# Altium footprint library SODFL160X80X70L60X30N.PcbLib: 1 footprints
Each footprint in its own frame and in the unit in brackets; x right, y up, seen from the top. Pads: shape width x height; smd on the part's side, far side on the other; paste and mask are expansions set on the pad; w line width, h text height; cw(c..) or ccw(c..) is an arc to the next point about the centre after c.
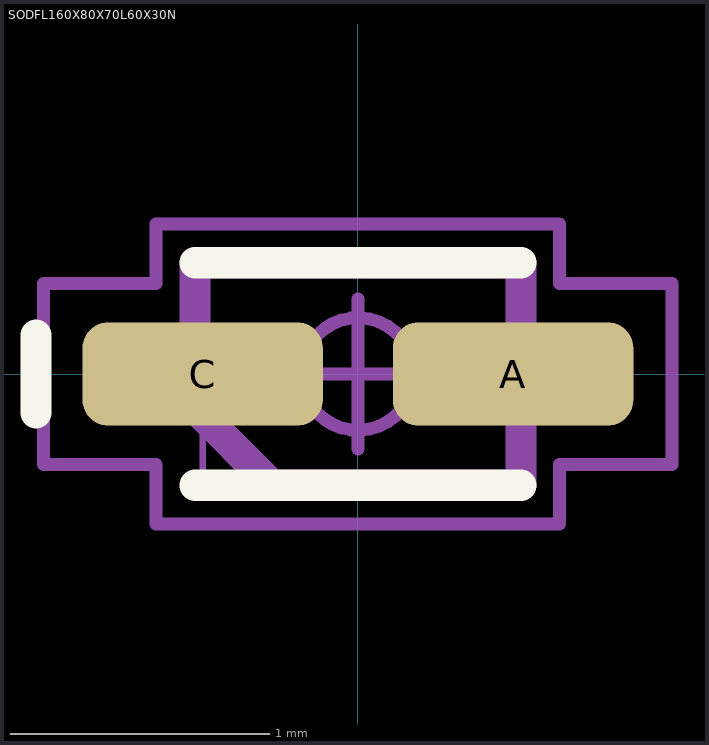
[diagram p0: the footprint, top view; thin cyan lines are the x and y axes]

## SODFL160X80X70L60X30N [mm] "Diode, Small Outline Diode Flat Lead (SODFL); 1.20 mm L X 0.80 mm W X 0.70 mm H body"
height 0.7
pads (2):
  rrect50% 0.93x0.4 smd: A(0.6,0) C(-0.6,0)
Top Overlay:
  lines w0.12: -1.245,-0.15 -1.245,0.15 ; -0.63,-0.43 0.63,-0.43 ; -0.63,0.43 0.63,0.43
Mechanical 3:
  lines w0.12: -0.63,-0.132 -0.332,-0.43 0.63,-0.43 0.63,0.43 -0.63,0.43 -0.63,-0.132
Mechanical 5:
  lines w0.025: -0.8,-0.15 -0.2,-0.15 -0.2,0.15 -0.8,0.15 -0.8,-0.15 ; -0.6,-0.4 -0.6,0.4 0.6,0.4 0.6,-0.4 -0.6,-0.4 ; 0.2,-0.15 0.2,0.15 0.8,0.15 0.8,-0.15 0.2,-0.15
Mechanical 7:
  circle w0.05: c0,0 r0.218
  lines w0.05: -0.29,0 0.29,0 ; 0,-0.29 0,0.29 ; -1.215,-0.35 -1.215,0.35 -0.78,0.35 -0.78,0.58 0.78,0.58 0.78,0.35 1.215,0.35 1.215,-0.35 0.78,-0.35 0.78,-0.58 -0.78,-0.58 -0.78,-0.35 -1.215,-0.35
Mechanical 9:
  text "'.Designator'" at -5.207,-0.254 h1
3D body "SODFL160X80X70L60X30.STEP": height 0.7, standoff 0, extent -0.8,-0.4 0.8,0.4
3D body: height 1.04, standoff 0, extent -1.215,-0.58 1.215,0.58